# Altium schematic symbol library vehicle_control.SchLib: 2 symbols
Pins are listed as number, name and electrical type; pins without a type are passive.

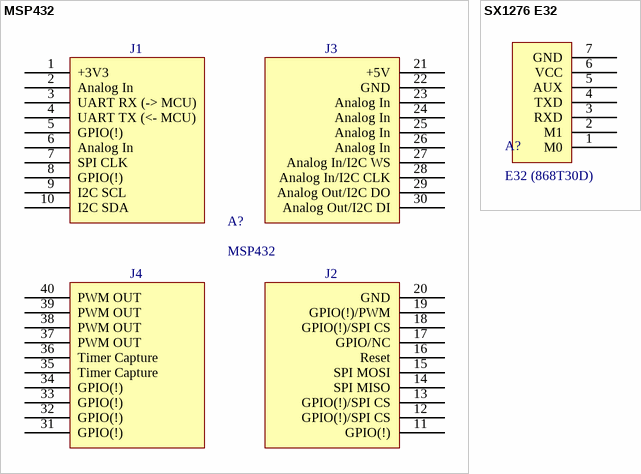
[diagram p0: symbols MSP432 to SX1276 E32]

## MSP432
designator A?
MSP432 Dev Kit Launchpad
footprint MSP432
pins: 1 +3V3 (power), 2 Analog In, 3 UART RX (-> MCU), 4 UART TX (<- MCU), 5 GPIO(!), 6 Analog In, 7 SPI CLK, 8 GPIO(!), 9 I2C SCL, 10 I2C SDA, 11 GPIO(!), 12 GPIO(!)/SPI CS, 13 GPIO(!)/SPI CS, 14 SPI MISO, 15 SPI MOSI, 16 Reset, 17 GPIO/NC, 18 GPIO(!)/SPI CS, 19 GPIO(!)/PWM, 20 GND, 21 +5V, 22 GND, 23 Analog In, 24 Analog In, 25 Analog In, 26 Analog In, 27 Analog In/I2C WS, 28 Analog In/I2C CLK, 29 Analog Out/I2C DO, 30 Analog Out/I2C DI, 31 GPIO(!), 32 GPIO(!), 33 GPIO(!), 34 GPIO(!), 35 Timer Capture, 36 Timer Capture, 37 PWM OUT, 38 PWM OUT, 39 PWM OUT, 40 PWM OUT
text: J1; J3; J4; J2

## SX1276 E32
designator A?, comment E32 (868T30D)
pins: 1 M0, 2 M1, 3 RXD, 4 TXD, 5 AUX, 6 VCC, 7 GND